# Altium footprint library WCH沁恒.pcblib: 121 footprints (part 8 of 8)
Each footprint in its own frame and in the unit in brackets; x right, y up, seen from the top. Pads: shape width x height; smd on the part's side, far side on the other; paste and mask are expansions set on the pad; w line width, h text height; cw(c..) or ccw(c..) is an arc to the next point about the centre after c.
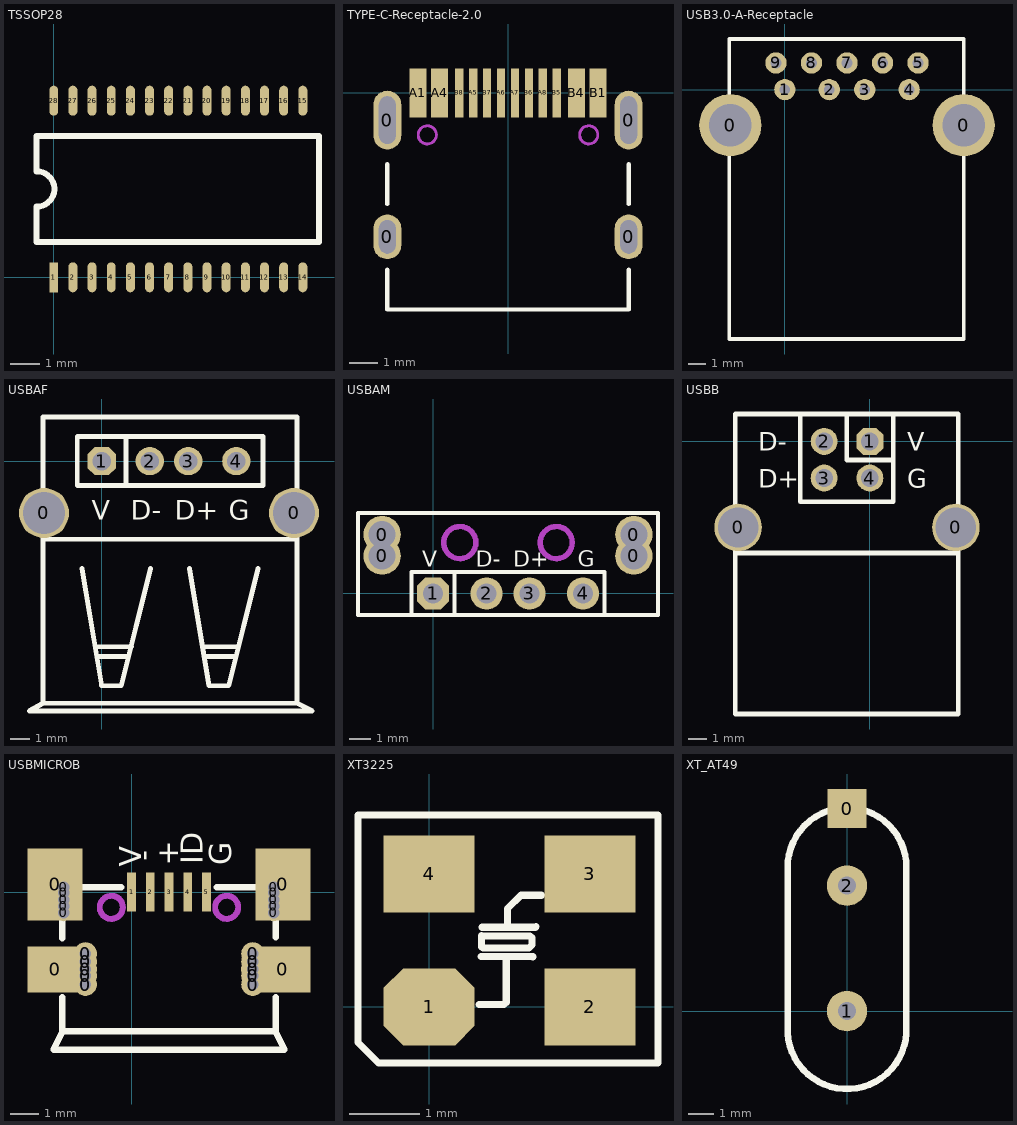
[diagram p7: the footprints below, top view; thin cyan lines are the x and y axes]

## TSSOP28 [mil]
pads (28):
  rect 12x40 smd: 1(0,0)
  oval 12x40 smd: 2(25.6,0) 3(51.2,0) 4(76.8,0) 5(102.4,0) 6(128,0) 7(153.5,0) 8(179.1,0) 9(204.7,0) 10(230.3,0) 11(256,0) 12(281.5,0) 13(307.2,0) 14(332.7,0) 15(332.7,236) 16(307.2,236) 17(281.5,236) 18(256,236) 19(230.3,236) 20(204.7,236) 21(179.1,236) 22(153.5,236) 23(128,236) 24(102.4,236) 25(76.8,236) 26(51.2,236) 27(25.6,236) 28(0,236)
TopOverlay:
  lines w7.87: -22.8,47.24 354.31,47.24 354.31,188.76 -22.8,188.76 -22.8,141.62 cw(c-22.8,118) -22.8,94.38 -22.8,47.24

## TYPE-C-Receptacle-2.0 [mm]
pads (16):
  oval 1x1.6 hole 0.6 slot 1.2 at 90 deg: 0(-4.32,-5.15) 0(4.32,-5.15)
  oval 1x2.1 hole 0.6 slot 1.7 at 90 deg: 0(-4.32,-0.97) 0(4.32,-0.97)
  rect 0.6x1.75 smd: A1(-3.225,0) A4(-2.45,0) B1(3.225,0) B4(2.45,0)
  rect 0.3x1.75 smd: A5(-1.25,0) A6(-0.25,0) A7(0.25,0) A8(1.25,0) B5(1.75,0) B6(0.75,0) B7(-0.75,0) B8(-1.75,0)
TopOverlay:
  lines w0.152: -4.32,-6.325 -4.32,-7.75 4.32,-7.75 4.32,-6.325 ; -4.32,-3.975 -4.32,-2.55 ; 4.32,-3.975 4.32,-2.55
KeepOutLayer:
  circle w0.1: c2.89,-1.5 r0.325
  circle w0.1: c-2.89,-1.5 r0.325
Mechanical1:
  circle w0.102: c2.89,-1.5 r0.325
  circle w0.102: c-2.89,-1.5 r0.325

## USB3.0-A-Receptacle [mm]
pads (11):
  round 3.5 hole 2.4: 0(-3.07,-2) 0(10.07,-2)
  round 1.2 hole 0.6: 1(0,0) 2(2.5,0) 3(4.5,0) 4(7,0) 5(7.5,1.5) 6(5.5,1.5) 7(3.5,1.5) 8(1.5,1.5) 9(-0.5,1.5)
TopOverlay:
  lines w0.2: -3.138,2.85 -3.138,-14.041 10.07,-14.041 10.07,2.85 -3.13,2.85 ; -1.33,2.85 1.245,2.85
BottomOverlay:
  text "V" at 0.406,-3.302 h0.8
  text "D-" at 2.743,-3.302 h0.8
  text "D+" at 4.775,-3.302 h0.8
  text "G" at 7.315,-3.302 h0.8
  text "R-" at 7.772,-1.041 h0.8
  text "R+" at 5.969,-1.041 h0.8
  text "G" at 3.886,-1.041 h0.8
  text "T-" at 1.803,-1.041 h0.8
  text "T+" at -0.127,-1.041 h0.8

## USBAF [mm]
pads (6):
  round 2.6 hole 2.2: 0(-3,-2.7) 0(10,-2.7)
  oct 1.473x1.473 hole 0.965: 1(0,0)
  round 1.473 hole 0.965: 2(2.5,0) 3(4.5,0) 4(7,0)
TopOverlay:
  lines w0.254: -3.048,-4.064 10.16,-4.064 ; -1.016,-5.588 0,-11.684 1.016,-11.684 2.54,-5.588 ; -0.33,-9.652 1.549,-9.652 ; -0.203,-10.16 1.321,-10.16 ; 1.27,-1.27 1.27,1.27 ; 4.572,-5.588 5.588,-11.684 6.604,-11.684 8.128,-5.588 ; 5.232,-9.652 7.112,-9.652 ; 5.359,-10.16 6.883,-10.16 ; -3.048,-12.59 -3.048,2.286 10.16,2.286 10.16,-12.59 ; -3.048,-12.59 10.16,-12.59 ; -3.048,-12.59 -3.752,-12.99 10.948,-12.99 10.16,-12.59 ; -1.27,-1.27 8.382,-1.27 8.382,1.27 -1.27,1.27 -1.27,-1.27
  text "D-" at 1.524,-3.048 h1.02
  text "D+" at 3.81,-3.048 h1.02
  text "V" at -0.508,-3.048 h1.02
  text "G" at 6.604,-3.048 h1.02

## USBAM [mil]
pads (8):
  round 70 hole 50: 0(-95,70) 0(-95,110) 0(375,70) 0(375,110)
  oct 60x60 hole 38: 1(0,0)
  round 60 hole 38: 2(100,0) 3(180,0) 4(280,0)
TopOverlay:
  lines w8: -40,-40 -40,40 320,40 320,-40 ; 40,-40 40,40 ; -140,-40 420,-40 420,150 -140,150 -140,-40
  text "G" at 270,50 h30
  text "V" at -20,50 h30
  text "D+" at 150,50 h30
  text "D-" at 80,50 h30
KeepOutLayer:
  circle w10: c230,95 r30
  circle w10: c50,95 r30
Mechanical1:
  circle w10: c50,95 r30
  circle w10: c230,95 r30

## USBB [mm]
pads (6):
  round 2.6 hole 2.2: 0(-7.2,-4.7) 0(4.7,-4.7)
  oct 1.473x1.473 hole 0.965: 1(0,0)
  round 1.473 hole 0.965: 2(-2.5,0) 3(-2.5,-2) 4(0,-2)
TopOverlay:
  lines w0.254: -7.366,-6.096 4.826,-6.096 ; -7.366,-3.302 -7.366,1.5 4.826,1.5 4.826,-3.58 ; -7.366,-3.048 -7.366,-14.9 4.826,-14.9 4.826,-1.016 ; -3.81,1.5 -3.81,-3.302 1.27,-3.302 1.27,1.5 ; -1.27,1.5 -1.27,-1.016 1.27,-1.016
  text "D-" at -6.096,-0.508 h1.02
  text "D+" at -6.096,-2.54 h1.02
  text "V" at 2.032,-0.508 h1.02
  text "G" at 2.032,-2.54 h1.02

## USBMICROB [mm]
pads (29):
  rect 1.9x1.6 smd: 0(-2.65,-2.675) 0(5.25,-2.675)
  rect 1.9x2.5 smd: 0(-2.65,0.271) 0(5.25,0.271)
  round 0.6 hole 0.4: 0(-2.349,-0.708) 0(-2.349,-0.483) 0(-2.349,-0.254) 0(-2.349,-0.025) 0(-2.349,0.178) 0(4.927,-0.708) 0(4.928,-0.483) 0(4.928,-0.254) 0(4.928,-0.025) 0(4.928,0.178)
  round 0.8 hole 0.4: 0(-1.6,-2.675) 0(-1.596,-3.2) 0(-1.596,-2.896) 0(-1.596,-2.413) 0(-1.596,-2.134) 0(4.2,-2.675) 0(4.204,-3.2) 0(4.204,-2.896) 0(4.204,-2.413) 0(4.204,-2.134)
  rect 0.3x1.35 smd: 1(0,0) 2(0.65,0) 3(1.3,0) 4(1.95,0) 5(2.6,0)
TopOverlay:
  lines w0.229: -2.4,-3.65 -2.4,-4.825 ; -2.4,-1.592 -2.4,0.175 -0.351,0.175 ; 2.951,0.175 5,0.175 5,-1.558 ; 5,-3.65 5,-4.825 ; -2.4,-4.825 5,-4.825 ; -2.4,-4.825 -2.7,-5.455 5.3,-5.455 5,-4.825
  text "ID" at 2.464,0.965 h0.76
  text "G" at 3.454,0.94 h0.76
  text "V" at 0.33,0.889 h0.76
  text "-" at 0.203,1.448 h0.76
  text "+" at 1.626,0.914 h0.76
KeepOutLayer:
  circle w0.203: c3.3,-0.525 r0.4
  circle w0.203: c-0.7,-0.525 r0.4
Mechanical1:
  circle w0.203: c-0.7,-0.525 r0.4
  circle w0.203: c3.3,-0.525 r0.4

## XT3225 [mm]
pads (4):
  oct 1.3x1.1 smd: 1(0,0)
  rect 1.3x1.1 smd: 2(2.3,0) 3(2.3,1.9) 4(0,1.9)
TopOverlay:
  lines w0.102: 0.713,0.033 1.073,0.033 1.104,0.064 1.104,0.66 ; 0.744,0.722 1.476,0.722 1.482,0.716 ; 0.75,1.013 1.445,1.013 1.47,0.988 1.47,0.883 1.426,0.84 0.769,0.84 0.75,0.858 0.75,1.019 ; 0.757,1.137 1.519,1.137 1.532,1.15 ; 1.122,1.205 1.122,1.404 1.315,1.596 1.606,1.596 ; -1.017,-0.512 -1.017,2.743 3.274,2.743 3.274,-0.804 -0.725,-0.804 -1.017,-0.512

## XT_AT49 [mil]
pads (3):
  rect 60x60 smd: 0(0,310)
  round 62 hole 28: 1(0,0) 2(0,192.13)
TopOverlay:
  lines w10: -90.88,-33.02 ccw(c0,-28.35) 90.87,-33.26 ; -90.55,-37.8 -90.55,229.92 ; -90.4,229.22 cw(c0,220.47) 90.4,229.17 ; 90.55,-38 90.55,229.92